# Altium footprint library CC2824.PcbLib: 1 footprints
Each footprint in its own frame and in the unit in brackets; x right, y up, seen from the top. Pads: shape width x height; smd on the part's side, far side on the other; paste and mask are expansions set on the pad; w line width, h text height; cw(c..) or ccw(c..) is an arc to the next point about the centre after c.
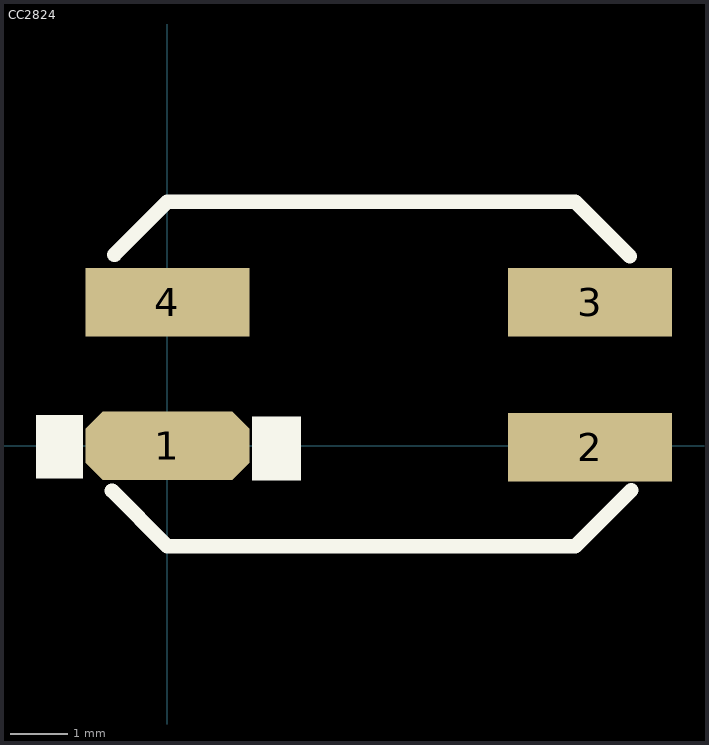
[diagram p0: the footprint, top view; thin cyan lines are the x and y axes]

## CC2824 [mm]
pads (4):
  oct 2.86x1.2 smd: 1(0,0)
  rect 2.86x1.2 smd: 2(7.36,-0.025) 3(7.36,2.5) 4(0,2.5)
Top Overlay:
  region: -1.467,0.537 -2.292,0.537 -2.292,-0.568 -1.467,-0.568
  region: 2.329,0.512 1.477,0.512 1.477,-0.607 2.329,-0.607
  lines w0.254: -0.965,-0.785 0,-1.75 7.1,-1.75 8.077,-0.773 ; -0.923,3.327 0,4.25 7.1,4.25 8.048,3.302